# EAGLE library part L80-R (library adv-w20)
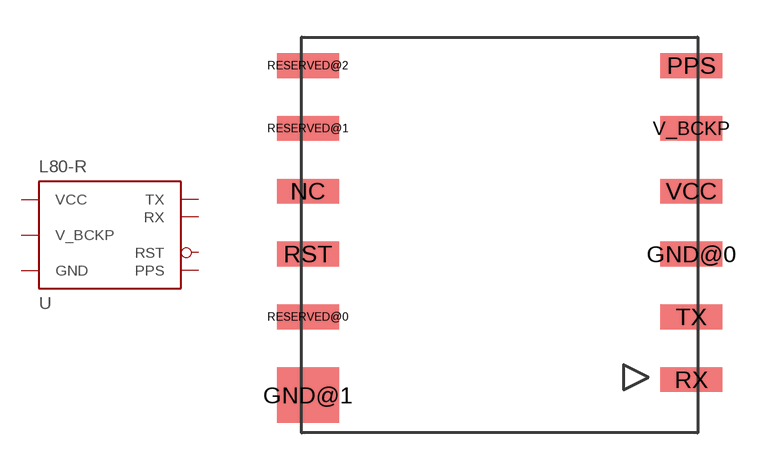
[diagram p0: symbol with the pads of L80-R; footprint L80-R]

Designator prefix -

## L80-R  [L80-R]
GND@0  GND  pwr
GND@1  GND  pwr
PPS  PPS  out
RST  RST
RX  RX  in
TX  TX  out
V_BCKP  V_BCKP  pwr
VCC  VCC  pwr

## Footprint L80-R (pad centres in mm)
smd 2.5 x 1: GND@0 7.75,-0.77; NC -7.75,1.77; PPS 7.75,6.85; RESERVED@0 -7.75,-3.31; RESERVED@1 -7.75,4.31; RESERVED@2 -7.75,6.85; RST -7.75,-0.77; RX 7.75,-5.85; TX 7.75,-3.31; V_BCKP 7.75,4.31; VCC 7.75,1.77
smd 2.5 x 2.25: GND@1 -7.75,-6.475